# EAGLE library part 61001021821 (library Wuerth_Elektronik_eiCan_Pin_&_Socked_Headers_v1.3)
WR-PHD 2.54mm Dual SMT Socket Header, 10 Pins
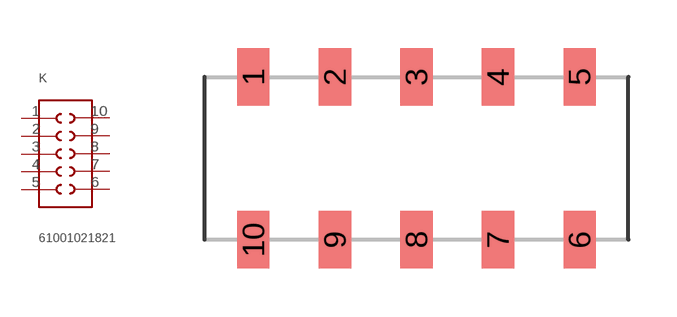
[diagram p250: symbol with the pads of 61001021821; footprint 61001021821]

Designator prefix K

## 61001021821  [61001021821]
1  1  pas
2  2  pas
3  3  pas
4  4  pas
5  5  pas
6  6  pas
7  7  pas
8  8  pas
9  9  pas
10  10  pas

## Footprint 61001021821 (pad centres in mm)
WR-PHD 2.54mm Dual SMT Socket Header, 10 Pins
smd 1 x 1.8: 1 -5.08,2.54; 2 -2.54,2.54; 3 0,2.54; 4 2.54,2.54; 5 5.08,2.54; 6 5.08,-2.54; 7 2.54,-2.54; 8 0,-2.54; 9 -2.54,-2.54; 10 -5.08,-2.54